# Altium schematic symbol library CD4050B.SchLib: 1 symbol
Pins are listed as number, name and electrical type; pins without a type are passive.

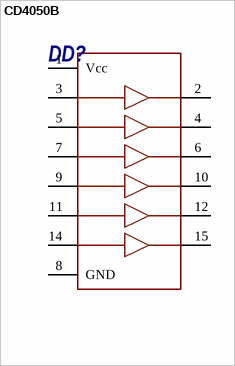
[diagram p0: symbol CD4050B]

## CD4050B
designator DD?
pins: 1 Vcc, 2 Y1, 3 A1, 4 Y2, 5 A2, 6 Y3, 7 A3, 8 GND, 9 A4, 10 Y10, 11 A5, 12 Y5, 14 A6, 15 Y6